# EAGLE library part 74*121 (library _mtvl.74xx)
Monostable MULTIVIBRATOR, schmitt trigger inputs
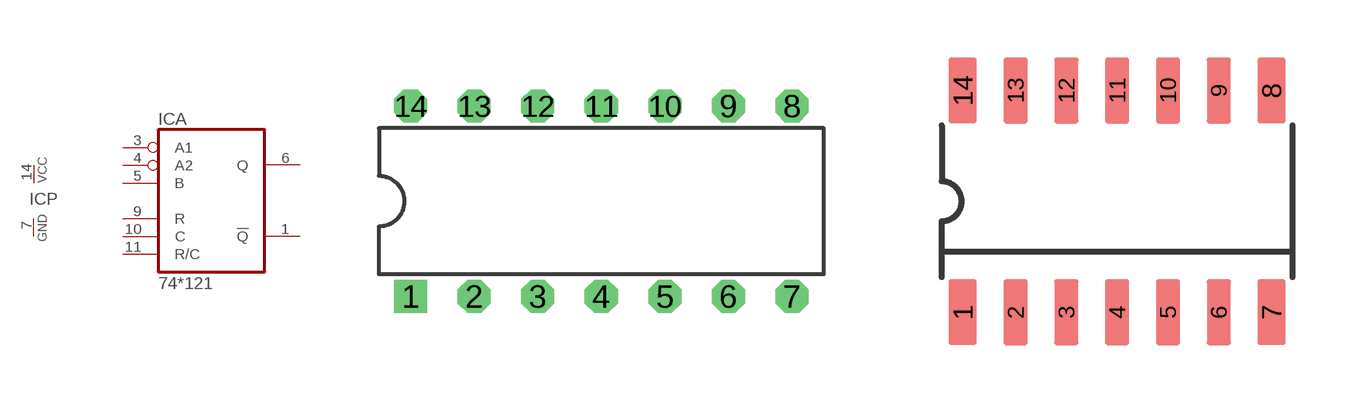
[diagram p43: symbol with the pads of DIL14; footprints DIL14, SO14-NEXPERIA]

Designator prefix IC; gates A=74121 P=PWRN

## 74121N  [DIL14]
1  A:!Q  out
3  A:A1  in
4  A:A2  in
5  A:B  in
6  A:Q  out
7  P:GND  pwr
9  A:R  in
10  A:C  in
11  A:R/C  in
14  P:VCC  pwr

## 74121D  [SO14-NEXPERIA]
Pads as for DIL14

## Footprint DIL14 (pad centres in mm)
Dual In Line Package
drill 0.813 square: 1 -7.62,-3.81
drill 0.813 octagon: 2 -5.08,-3.81; 3 -2.54,-3.81; 4 0,-3.81; 5 2.54,-3.81; 6 5.08,-3.81; 7 7.62,-3.81; 8 7.62,3.81; 9 5.08,3.81; 10 2.54,3.81; 11 0,3.81; 12 -2.54,3.81; 13 -5.08,3.81; 14 -7.62,3.81

## Footprint SO14-NEXPERIA (pad centres in mm)
SOT108-1 plastic, small outline package; 14 leads; 1.27 mm pitch; 8.65mm x 3.9 mm x 1.75 mm body 15 June 2022 https://assets.nexperia.com/documents/package-information/SOT108-1.pdf
smd 0.7 x 1.65: 1 -3.86,-2.775; 7 3.86,-2.775; 8 3.86,2.775; 14 -3.86,2.775
smd 0.6 x 1.65: 2 -2.54,-2.775; 3 -1.27,-2.775; 4 0,-2.775; 5 1.27,-2.775; 6 2.54,-2.775; 9 2.54,2.775; 10 1.27,2.775; 11 0,2.775; 12 -1.27,2.775; 13 -2.54,2.775